# Altium schematic symbol library 控制板.SCHLIB: 20 symbols
Pins are listed as number, name and electrical type; pins without a type are passive.

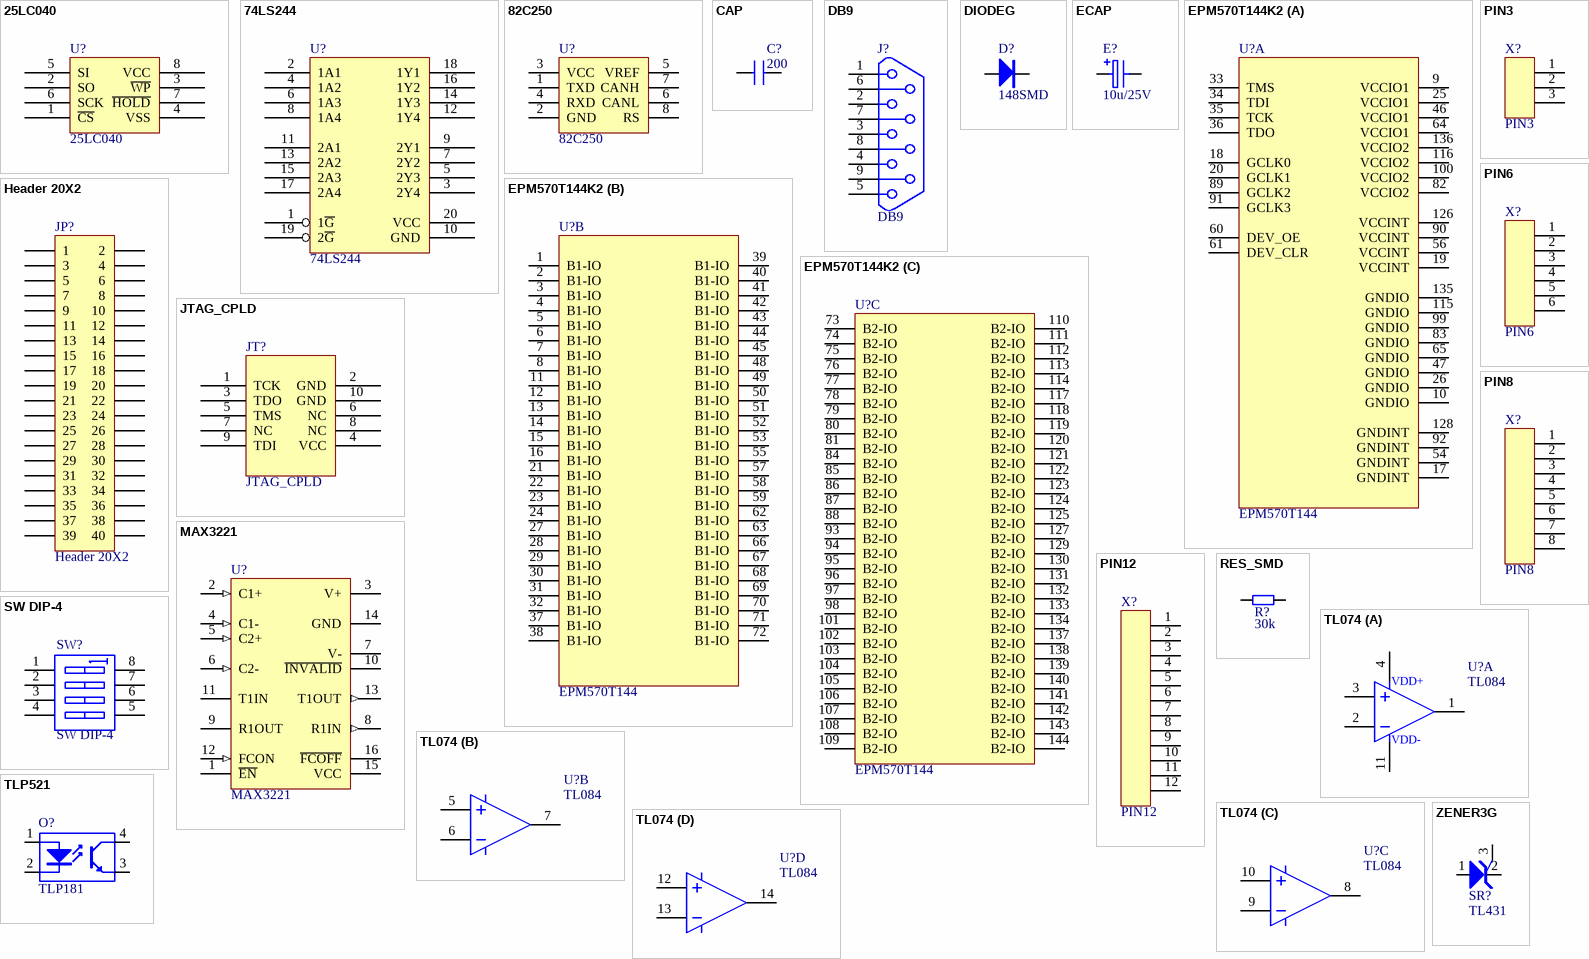
[diagram p0: symbols 25LC040 to ZENER3G]

## 25LC040
designator U?
pins: 1 ~{CS}, 2 SO, 3 ~{WP}, 4 VSS, 5 SI, 6 SCK, 7 ~{HOLD}, 8 VCC
2 alternate drawings of the same symbol

## 74LS244
designator U?
Text Field1: pristel=\TTL74\74lsphnw.lib
footprint DIP20
footprint SO20
pins: 1 1~{G}, 2 1A1, 3 2Y4 (hiz), 4 1A2, 5 2Y3 (hiz), 6 1A3, 7 2Y2 (hiz), 8 1A4, 9 2Y1 (hiz), 10 GND, 11 2A1, 12 1Y4 (hiz), 13 2A2, 14 1Y3 (hiz), 15 2A3, 16 1Y2 (hiz), 17 2A4, 18 1Y1 (hiz), 19 2~{G}, 20 VCC (power)
2 alternate drawings of the same symbol

## 82C250
designator U?
footprint SMD8
pins: 1 TXD, 2 GND, 3 VCC, 4 RXD, 5 VREF, 6 CANL, 7 CANH, 8 RS
2 alternate drawings of the same symbol

## CAP
designator C?, comment 200
footprint RAD-0.2
footprint RAD-0.4
footprint 0805C
footprint RAD-0.3
pins: 1, 2
2 alternate drawings of the same symbol

## DB9
designator J?
footprint HUST_DB9/M
pins: 1, 2, 3, 4, 5, 6, 7, 8, 9

## DIODEG
designator D?, comment 148SMD
footprint SC-1206
pins: A, K
2 alternate drawings of the same symbol

## ECAP
designator E?, comment 10u/25V
Electrolytic Capacitor
footprint E0.4
footprint E0.3
footprint E0.2
footprint RB.1/.2
pins: 1, 2

## EPM570T144K2
designator U?, comment EPM570T144
footprint TQFP-144
part A pins: 9 VCCIO1, 10 GNDIO, 17 GNDINT, 18 GCLK0, 19 VCCINT, 20 GCLK1, 25 VCCIO1, 26 GNDIO, 33 TMS, 34 TDI, 35 TCK, 36 TDO, 46 VCCIO1, 47 GNDIO, 54 GNDINT, 56 VCCINT, 60 DEV_OE, 61 DEV_CLR, 64 VCCIO1, 65 GNDIO, 82 VCCIO2, 83 GNDIO, 89 GCLK2, 90 VCCINT, 91 GCLK3, 92 GNDINT, 99 GNDIO, 100 VCCIO2, 115 GNDIO, 116 VCCIO2, 126 VCCINT, 128 GNDINT, 135 GNDIO, 136 VCCIO2
part B pins: 1 B1-IO, 2 B1-IO, 3 B1-IO, 4 B1-IO, 5 B1-IO, 6 B1-IO, 7 B1-IO, 8 B1-IO, 11 B1-IO, 12 B1-IO, 13 B1-IO, 14 B1-IO, 15 B1-IO, 16 B1-IO, 21 B1-IO, 22 B1-IO, 23 B1-IO, 24 B1-IO, 27 B1-IO, 28 B1-IO, 29 B1-IO, 30 B1-IO, 31 B1-IO, 32 B1-IO, 37 B1-IO, 38 B1-IO, 39 B1-IO, 40 B1-IO, 41 B1-IO, 42 B1-IO, 43 B1-IO, 44 B1-IO, 45 B1-IO, 48 B1-IO, 49 B1-IO, 50 B1-IO, 51 B1-IO, 52 B1-IO, 53 B1-IO, 55 B1-IO, 57 B1-IO, 58 B1-IO, 59 B1-IO, 62 B1-IO, 63 B1-IO, 66 B1-IO, 67 B1-IO, 68 B1-IO, 69 B1-IO, 70 B1-IO, 71 B1-IO, 72 B1-IO
part C pins: 73 B2-IO, 74 B2-IO, 75 B2-IO, 76 B2-IO, 77 B2-IO, 78 B2-IO, 79 B2-IO, 80 B2-IO, 81 B2-IO, 84 B2-IO, 85 B2-IO, 86 B2-IO, 87 B2-IO, 88 B2-IO, 93 B2-IO, 94 B2-IO, 95 B2-IO, 96 B2-IO, 97 B2-IO, 98 B2-IO, 101 B2-IO, 102 B2-IO, 103 B2-IO, 104 B2-IO, 105 B2-IO, 106 B2-IO, 107 B2-IO, 108 B2-IO, 109 B2-IO, 110 B2-IO, 111 B2-IO, 112 B2-IO, 113 B2-IO, 114 B2-IO, 117 B2-IO, 118 B2-IO, 119 B2-IO, 120 B2-IO, 121 B2-IO, 122 B2-IO, 123 B2-IO, 124 B2-IO, 125 B2-IO, 127 B2-IO, 129 B2-IO, 130 B2-IO, 131 B2-IO, 132 B2-IO, 133 B2-IO, 134 B2-IO, 137 B2-IO, 138 B2-IO, 139 B2-IO, 140 B2-IO, 141 B2-IO, 142 B2-IO, 143 B2-IO, 144 B2-IO
2 alternate drawings of the same symbol

## Header 20X2
designator JP?
Header, 20-Pin, Dual row; Revision: 17-Jul-2002: Re-released for DXP Platform.; Publisher: Altium Limited
footprint HDR2X20 (Connector; Header; 20x2 Position)
signal-integrity model Connector
pins: 1, 2, 3, 4, 5, 6, 7, 8, 9, 10, 11, 12, 13, 14, 15, 16, 17, 18, 19, 20, 21, 22, 23, 24, 25, 26, 27, 28, 29, 30, 31, 32, 33, 34, 35, 36, 37, 38, 39, 40

## JTAG_CPLD
designator JT?
footprint IDC10
pins: 1 TCK, 2 GND, 3 TDO, 4 VCC, 5 TMS, 6 NC, 7 NC, 8 NC, 9 TDI, 10 GND
2 alternate drawings of the same symbol

## MAX3221
designator U?
footprint SO16
footprint DIP16
pins: 1 ~{EN}, 2 C1+ (in), 3 V+ (power), 4 C1- (in), 5 C2+ (in), 6 C2- (in), 7 V- (power), 8 R1IN (out), 9 R1OUT, 10 ~{INVALID}, 11 T1IN, 12 FCON (in), 13 T1OUT (out), 14 GND, 15 VCC (power), 16 ~{FCOFF}

## PIN3
designator X?
footprint PIN3-0.2 (3芯插座, 焊盘间距200mil)
footprint PIN3-0.3 (3芯插座, 焊盘间距300mil)
footprint PIN3-3.5MM (3芯插座, 焊盘间距3.5mm)
pins: 1, 2, 3
2 alternate drawings of the same symbol

## PIN6
designator X?
footprint PIN6-0.2 (6芯插座, 焊盘间距200mil)
footprint PIN6-3.5MM (6.芯插座, 焊盘间距3.5mm)
pins: 1, 2, 3, 4, 5, 6
2 alternate drawings of the same symbol

## PIN8
designator X?
footprint PIN8-0.2 (8芯插座, 焊盘间距200mil)
footprint PIN8-3.5MM (8.芯插座, 焊盘间距3.5mm)
pins: 1, 2, 3, 4, 5, 6, 7, 8
2 alternate drawings of the same symbol

## PIN12
designator X?
footprint PIN12-0.2 (12芯插座, 焊盘间距200mil)
footprint PIN12-3.5MM (8.芯插座, 焊盘间距3.5mm)
pins: 1, 2, 3, 4, 5, 6, 7, 8, 9, 10, 11, 12
2 alternate drawings of the same symbol

## RES_SMD
designator R?, comment 30k
footprint 0805R
footprint XAL0.1
pins: 1, 2
2 alternate drawings of the same symbol

## SW DIP-4
designator SW?
DIP Switch
pins: 1 A1, 2 A2, 3 A3, 4 A4, 5 B4, 6 B3, 7 B2, 8 B1
2 alternate drawings of the same symbol

## TL074
designator U?, comment TL084
footprint SO14
part A pins: 1, 2, 3, 4, 11
part B pins: 5, 6, 7
part C pins: 8, 9, 10
part D pins: 12, 13, 14
2 alternate drawings of the same symbol
part A text: VDD+; VDD-

## TLP521
designator O?, comment TLP181
footprint PC817
footprint TLP181
pins: 1, 2, 3, 4

## ZENER3G
designator SR?, comment TL431
footprint lm336
footprint TO92
pins: 1 A, 2 K, 3 ADJ